# EAGLE library part ADM3202ARU (library FaBo-LevelTranslator)
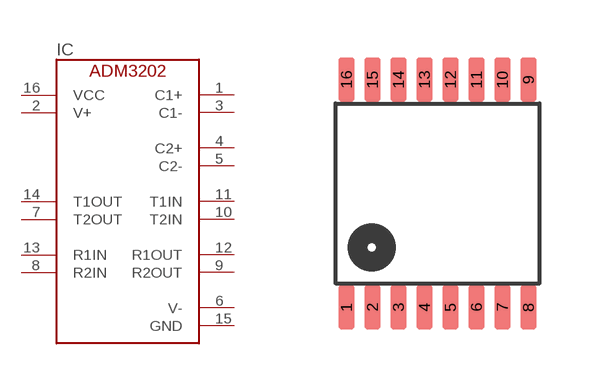
[diagram p5: symbol with the pads of TSSOP-16; footprint TSSOP-16]

Designator prefix IC

## ADM3202ARU  [TSSOP-16]
1  C1+
2  V+
3  C1-
4  C2+
5  C2-
6  V-
7  T2OUT
8  R2IN
9  R2OUT
10  T2IN
11  T1IN
12  R1OUT
13  R1IN
14  T1OUT
15  GND
16  VCC

## Footprint TSSOP-16 (pad centres in mm)
smd 0.4 x 1.1: 1 -2.275,-2.85; 2 -1.625,-2.85; 3 -0.975,-2.85; 4 -0.325,-2.85; 5 0.325,-2.85; 6 0.975,-2.85; 7 1.625,-2.85; 8 2.275,-2.85; 9 2.275,2.85; 10 1.625,2.85; 11 0.975,2.85; 12 0.325,2.85; 13 -0.325,2.85; 14 -0.975,2.85; 15 -1.625,2.85; 16 -2.275,2.85